# Altium schematic symbol library DS1013-20SSIB1-B-0.SchLib: 1 symbol
Pins are listed as number, name and electrical type; pins without a type are passive.

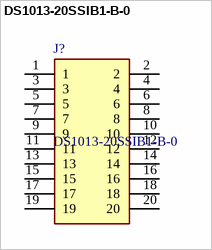
[diagram p0: symbol DS1013-20SSIB1-B-0]

## DS1013-20SSIB1-B-0
designator J?
Socket; IDC; male; PIN: 20; straight; THT; gold-plated; 2.54mm; Manufacturer_Name: Connfly; Geometry.Height: 9.55mm; TME Electronic Components Part Number: *; TME Electronic Components Price/Stock: *; Manufacturer_Part_Number: DS1013-20SSIB1-B-0; Datasheet Link: https://www.tme.eu/Document/e9117e1c80532ff2c20cc520b4694ed9/DS1013.pdf
footprint SHDR20W69P254X254_2X10_3300X910X955P
pins: 1, 2, 3, 4, 5, 6, 7, 8, 9, 10, 11, 12, 13, 14, 15, 16, 17, 18, 19, 20